# Altium schematic symbol library Trenz Electronic.SchLib: 2 symbols
Pins are listed as number, name and electrical type; pins without a type are passive.

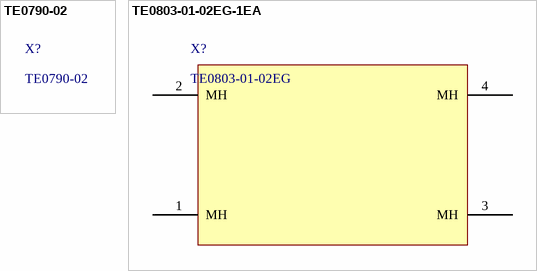
[diagram p0: symbols TE0790-02 to TE0803-01-02EG-1EA]

## TE0790-02
designator X?

## TE0803-01-02EG-1EA
designator X?, comment TE0803-01-02EG
pins: 1 MH, 2 MH, 3 MH, 4 MH